# Altium schematic symbol library BZX84C12.SchLib: 2 symbols
Pins are listed as number, name and electrical type; pins without a type are passive.

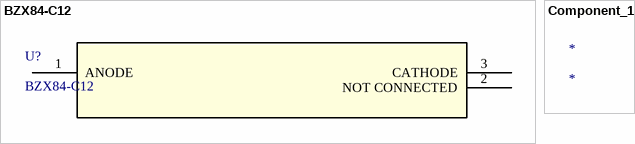
[diagram p0: symbols BZX84-C12 to Component_1]

## BZX84-C12
designator U?
No Description Available; Vendor: Nexperia; SourceLibrary: Nexperia_2018-05-2018; Manufacturer_Part_Number: BZX84-C12; Copyright: Copyright (C) 2016 Accelerated Designs. All rights reserved; RefDes: RefDes; Type: DEV
footprint SOT23_NEX
pins: 1 ANODE, 2 NOT CONNECTED, 3 CATHODE

## Component_1
designator *